# Altium integrated library Flight_Computer_1.IntLib: 48 symbols (part 2 of 3)
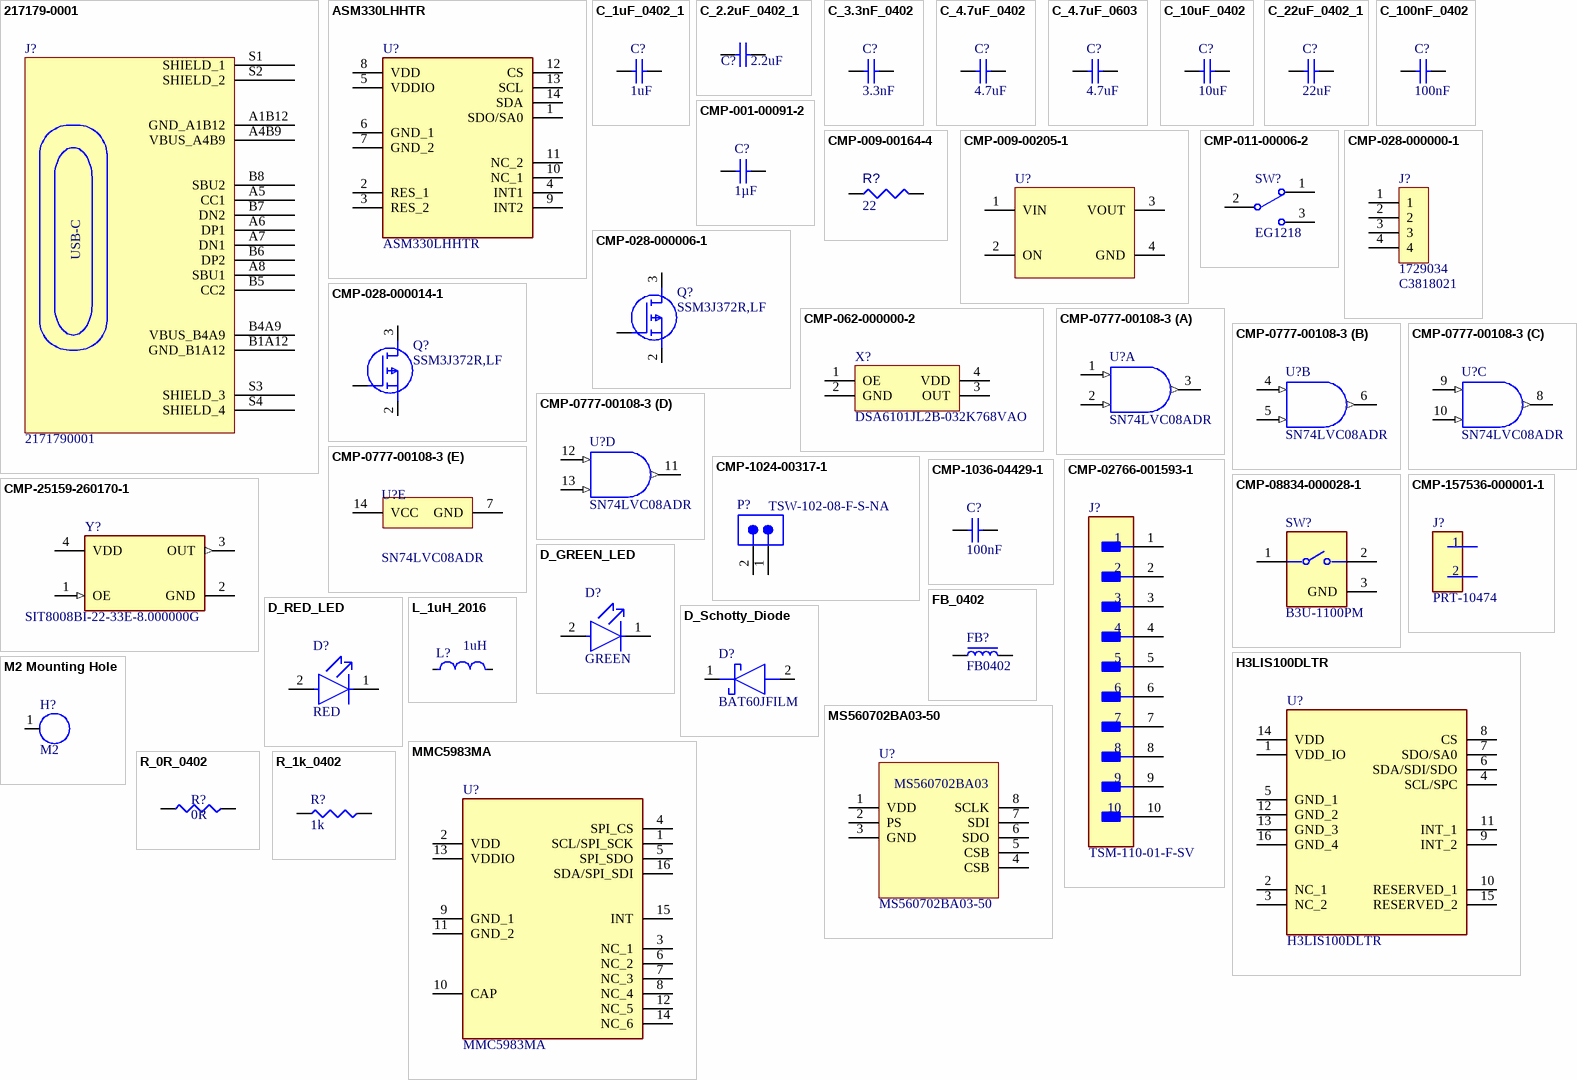
[diagram p2: symbols 217179-0001 to R_1k_0402]

## FB_0402
designator FB?, comment FB0402
Ferrite Beads Multi-Layer 600Ohm 25% 100MHz 300mA 520mOhm DCR 0402 Paper T/R; Manufacturer: Murata Electronics; Manufacturer Part Number: BLM15AG601SN1D; DC Resistance (DCR): 520mΩ; Impedance: 600Ω; Material: Ferrite, Steel; Number of Circuits: 1; Shielding: Unshielded; Distributor Link: *; LCSC Part #: C76884; Supplier: DigiKey; Supplier Part Number: 490-1006-1-ND; RoHS: Compliant; Category: Ferrite Beads and Chips; Stock: 347218; Pricing: 1=0.1, 10=0.043, 25=0.0376, 50=0.034, 100=0.0305, 250=0.02632, 500=0.02346, 1000=0.02083, 5000=0.01546, 10000=0.01341, 20000=0.01188 (USD); Case/Package: 0402; Case Code (Imperial): 0402; Case Code (Metric): 1005; Core Material: Ferrite; Current Rating: 300mA; DC Current: 300mA; Depth: 550µm; Frequency: 100MHz; Height: 500µm; Lead Free: Lead Free; Length: 1mm; Lifecycle Status: Production; Max Current Rating: 300mA; Max DC Current: 300mA; Clock Frequency: 100MHz; Max Operating Temperature: 125°C; Military Standard: Not; Min Operating Temperature: -55°C; Number of Lines: 1; Pins: 2; Number of Terminals: 2; Packaging: Tape and Reel; Radiation Hardening: No; REACH SVHC: Yes; RMS Current (Irms): 300mA; Schedule B: 8504500000, 8504500000|8504500000, 8504500000|8504500000|8504500000, 8504500000|8504500000|8504500000|8504500000; ESR: 520mΩ; Termination: SMD/SMT; Test Frequency: 100MHz; Tolerance: 25%; Width: 500µm; ComponentLink1URL: https://datasheet.octopart.com:443/BLM15AG601SN1D-Murata-datasheet-180806368.pdf?src-supplier=Newark; ComponentLink1Description: https://datasheet.octopart.com:443/BLM15AG601SN1D-Murata-datasheet-180806368.pdf?src-supplier=Newark; ComponentLink2URL: https://datasheet.octopart.com:443/BLM15AG601SN1D-Murata-datasheet-12522583.pdf?src-supplier=Upverter; ComponentLink2Description: https://datasheet.octopart.com:443/BLM15AG601SN1D-Murata-datasheet-12522583.pdf?src-supplier=Upverter; ComponentLink3URL: https://datasheet.octopart.com:443/BLM15AG601SN1D-Murata-datasheet-10083551.pdf?src-supplier=Upverter; ComponentLink3Description: https://datasheet.octopart.com:443/BLM15AG601SN1D-Murata-datasheet-10083551.pdf?src-supplier=Upverter; ComponentLink4URL: https://datasheet.octopart.com:443/BLM15AG601SN1D-Murata-datasheet-8508678.pdf?src-supplier=Upverter; ComponentLink4Description: https://datasheet.octopart.com:443/BLM15AG601SN1D-Murata-datasheet-8508678.pdf?src-supplier=Upverter; ComponentLink5URL: https://datasheet.octopart.com:443/BLM15AG601SN1D-Murata-datasheet-70271.pdf?src-supplier=element14+APAC; ComponentLink5Description: https://datasheet.octopart.com:443/BLM15AG601SN1D-Murata-datasheet-70271.pdf?src-supplier=element14+APAC; ComponentLink6URL: https://datasheet.octopart.com:443/BLM15AG601SN1D-Murata-datasheet-11772092.pdf?src-supplier=Future+Electronics; ComponentLink6Description: https://datasheet.octopart.com:443/BLM15AG601SN1D-Murata-datasheet-11772092.pdf?src-supplier=Future+Electronics; ComponentLink7URL: https://datasheet.octopart.com:443/BLM15AG601SN1D-Murata-datasheet-13536432.pdf?src-supplier=Future+Electronics; ComponentLink7Description: https://datasheet.octopart.com:443/BLM15AG601SN1D-Murata-datasheet-13536432.pdf?src-supplier=Future+Electronics; ComponentLink8URL: https://datasheet.octopart.com:443/BLM15AG601SN1D-Murata-datasheet-79879196.pdf?src-supplier=Future+Electronics; ComponentLink8Description: https://datasheet.octopart.com:443/BLM15AG601SN1D-Murata-datasheet-79879196.pdf?src-supplier=Future+Electronics; ComponentLink9URL: https://datasheet.octopart.com:443/BLM15AG601SN1D-Murata-datasheet-13563506.pdf?src-supplier=Future+Electronics; ComponentLink9Description: https://datasheet.octopart.com:443/BLM15AG601SN1D-Murata-datasheet-13563506.pdf?src-supplier=Future+Electronics; ComponentLink10URL: https://datasheet.octopart.com:443/BLM15AG601SN1D-Murata-datasheet-12545319.pdf?src-supplier=Future+Electronics; ComponentLink10Description: https://datasheet.octopart.com:443/BLM15AG601SN1D-Murata-datasheet-12545319.pdf?src-supplier=Future+Electronics; ComponentLink11URL: https://datasheet.octopart.com:443/BLM15AG601SN1D-Murata-datasheet-141257741.pdf?src-supplier=Ciiva; ComponentLink11Description: https://datasheet.octopart.com:443/BLM15AG601SN1D-Murata-datasheet-141257741.pdf?src-supplier=Ciiva; ComponentLink12URL: https://datasheet.octopart.com:443/BLM15AG601SN1D-Murata-datasheet-138706486.pdf?src-supplier=Ciiva; ComponentLink12Description: https://datasheet.octopart.com:443/BLM15AG601SN1D-Murata-datasheet-138706486.pdf?src-supplier=Ciiva; ComponentLink13URL: https://datasheet.octopart.com:443/BLM15AG601SN1D-Murata-datasheet-155367977.pdf?src-supplier=TME; ComponentLink13Description: https://datasheet.octopart.com:443/BLM15AG601SN1D-Murata-datasheet-155367977.pdf?src-supplier=TME; ComponentLink14URL: https://datasheet.octopart.com:443/BLM15AG601SN1D-Murata-datasheet-65816644.pdf?src-supplier=TME; ComponentLink14Description: https://datasheet.octopart.com:443/BLM15AG601SN1D-Murata-datasheet-65816644.pdf?src-supplier=TME; ComponentLink15URL: https://datasheet.octopart.com:443/BLM15AG601SN1D-Murata-datasheet-102761981.pdf?src-supplier=Megastar; ComponentLink15Description: https://datasheet.octopart.com:443/BLM15AG601SN1D-Murata-datasheet-102761981.pdf?src-supplier=Megastar; ComponentLink16URL: https://datasheet.octopart.com/BLM15AG601SN1D-Murata-datasheet-37129980.pdf; ComponentLink16Description: https://datasheet.octopart.com/BLM15AG601SN1D-Murata-datasheet-37129980.pdf; ComponentLink17URL: https://datasheet.octopart.com:443/BLM15AG601SN1D-Murata-datasheet-14066398.pdf?src-supplier=iiiC; ComponentLink17Description: https://datasheet.octopart.com:443/BLM15AG601SN1D-Murata-datasheet-14066398.pdf?src-supplier=iiiC; ComponentLink18URL: http://sigma.octopart.com:80/reach_statement/Murata-company-16.pdf?src-supplier=Compliance+Statements; ComponentLink18Description: http://sigma.octopart.com:80/reach_statement/Murata-company-16.pdf?src-supplier=Compliance+Statements
footprint 0402_R
pins: 1, 2

## H3LIS100DLTR
designator U?
ACCELEROMETER 100G I2C/SPI 16LGA; Manufacturer_Name: STMicroelectronics; Axis: X, Y, Z; Bandwidth: 200Hz; Max Supply Voltage: 3.6V; Min Supply Voltage: 2.16V; Number of Circuits: 1; Operating Supply Voltage: 2.5V; Output Type: Digital; Datasheet Link: https://www.st.com/resource/en/datasheet/h3lis100dl.pdf; Height: 1mm; Manufacturer_Part_Number: H3LIS100DLTR; Mouser Part Number: 511-H3LIS100DLTR; Mouser Price/Stock: https://www.mouser.co.uk/ProductDetail/STMicroelectronics/H3LIS100DLTR?qs=v3MacVxtdDLHj8sdza6BGw%3D%3D; Arrow Part Number: H3LIS100DLTR; Arrow Price/Stock: https://www.arrow.com/en/products/h3lis100dltr/stmicroelectronics?region=nac; Supplier: DigiKey; Supplier Part Number: 497-15697-1-ND; Manufacturer: STMicroelectronics; Manufacturer Part Number: H3LIS100DLTR; RoHS: Compliant; Category: Accelerometers; Stock: 8694; Pricing: 1=6.69, 5=6.03, 10=5.783, 25=5.4888, 50=5.2876, 100=5.1032, 500=4.88678 (USD); Case/Package: LGA; China RoHS: Non-Compliant; Height - Seated (Max): 1mm; Lead Free: Lead Free; Length: 3mm; Lifecycle Status: Production; Max Operating Temperature: 85°C; Min Operating Temperature: -40°C; Mounting Technology: Surface Mount; Pins: 16; Number of Terminals: 16; REACH SVHC: No; Schedule B: 8542390000, 8542390000|8542390000|8542390000|8542390000|8542390000|8542390000|8542390000|8542390000|8542390000|8542390000|8542390000|8542390000|8542390000|8542390000|8542390000|8542390000|8542390000|8542390000|8542390000|8542390000|8542390000|8542390000|8542390000|85; Terminal Pitch: 500µm; Width: 3mm; ComponentLink1URL: https://datasheet.octopart.com:443/H3LIS100DLTR-STMicroelectronics-datasheet-181243375.pdf?src-supplier=IHS; ComponentLink1Description: https://datasheet.octopart.com:443/H3LIS100DLTR-STMicroelectronics-datasheet-181243375.pdf?src-supplier=IHS; ComponentLink2URL: https://datasheet.octopart.com:443/H3LIS100DLTR-STMicroelectronics-datasheet-41189296.pdf?src-supplier=element14+APAC; ComponentLink2Description: https://datasheet.octopart.com:443/H3LIS100DLTR-STMicroelectronics-datasheet-41189296.pdf?src-supplier=element14+APAC; LCSC Part #: C2655068
footprint H3LIS100DLTR
pins: 1 VDD_IO, 2 NC_1, 3 NC_2, 4 SCL/SPC, 5 GND_1, 6 SDA/SDI/SDO, 7 SDO/SA0, 8 CS, 9 INT_2, 10 RESERVED_1, 11 INT_1, 12 GND_2, 13 GND_3, 14 VDD, 15 RESERVED_2, 16 GND_4

## L_1uH_2016
designator L?, comment 1uH
FIXED IND 1UH 1.7A 128 MOHM SMD; Manufacturer: Murata; Manufacturer Part Number: DFE201610E-2R2M=P2; Manufacturer Lifecycle Status: IN PRODUCTION; DC Resistance (DCR): 140mΩ; Value: 2.2µH; Inductance Tolerance: 20%; Number of Circuits: 1; Saturation Current: 2.4A; Shielding: Yes; Test Frequency: 1MHz; Core Material: Metal; Supplier: DigiKey; Supplier Part Number: 490-17728-1-ND; RoHS: Compliant; Category: Fixed Inductors; Stock: 158333; Pricing: 1=0.24, 10=0.2, 100=0.1645, 1000=0.13528 (USD); Case/Package: 0806; Composition: Wirewound; Current Rating: 1.7A; Height: 1mm; Lifecycle Status: Production; Max Current Rating: 1.7A; Max Operating Temperature: 125°C; Min Operating Temperature: -40°C; Number of Terminals: 2; Packaging: Cut Tape; REACH SVHC: Yes; RMS Current (Irms): 1.7A; Schedule B: 8504500000; ESR: 140mΩ; Tolerance: 20%; Width: 1.6mm; Ambient Temperature Range High: 85°C; ComponentLink1URL: https://datasheet.octopart.com:443/DFE18SAN1R0MG0L-Murata-datasheet-141261288.pdf?src-supplier=Ciiva; ComponentLink1Description: https://datasheet.octopart.com:443/DFE18SAN1R0MG0L-Murata-datasheet-141261288.pdf?src-supplier=Ciiva; ComponentLink2URL: https://datasheet.octopart.com:443/DFE18SAN1R0MG0L-Murata-datasheet-140650244.pdf?src-supplier=Ciiva; ComponentLink2Description: https://datasheet.octopart.com:443/DFE18SAN1R0MG0L-Murata-datasheet-140650244.pdf?src-supplier=Ciiva; ComponentLink3URL: https://datasheet.octopart.com:443/DFE18SAN1R0MG0L-Murata-datasheet-138707311.pdf?src-supplier=Ciiva; ComponentLink3Description: https://datasheet.octopart.com:443/DFE18SAN1R0MG0L-Murata-datasheet-138707311.pdf?src-supplier=Ciiva; ComponentLink4URL: https://datasheet.octopart.com:443/DFE18SAN1R0MG0L-Murata-datasheet-140568518.pdf?src-supplier=Arrow.cn; ComponentLink4Description: https://datasheet.octopart.com:443/DFE18SAN1R0MG0L-Murata-datasheet-140568518.pdf?src-supplier=Arrow.cn; ComponentLink5URL: https://datasheet.octopart.com:443/DFE18SAN1R0MG0L-Murata-datasheet-169352396.pdf?src-supplier=Arrow.cn; ComponentLink5Description: https://datasheet.octopart.com:443/DFE18SAN1R0MG0L-Murata-datasheet-169352396.pdf?src-supplier=Arrow.cn; ComponentLink6URL: https://datasheet.octopart.com:443/DFE18SAN1R0MG0L-Murata-datasheet-145448863.pdf?src-supplier=Geoflip; ComponentLink6Description: https://datasheet.octopart.com:443/DFE18SAN1R0MG0L-Murata-datasheet-145448863.pdf?src-supplier=Geoflip; ComponentLink7URL: http://sigma.octopart.com:80/reach_statement/Murata-company-16.pdf?src-supplier=Compliance+Statements; ComponentLink7Description: http://sigma.octopart.com:80/reach_statement/Murata-company-16.pdf?src-supplier=Compliance+Statements; LCSC Part #: C560043
footprint AOTAB201610S3R3101T
pins: 1, 2

## M2 Mounting Hole
designator H?, comment M2
2mm M2 Mounting Hole
footprint Mounting Hole
pins: 1

## MMC5983MA
designator U?
8 Gauss, High Performance 3-axis Magnetic Sensor Automotive AEC-Q100; Manufacturer_Name: MEMSIC; Max Supply Voltage: 3.6V; Min Supply Voltage: 2.8V; Sensing Method: Magnetoresistive; Datasheet Link: https://www.mouser.com/datasheet/2/821/Memsic_09102019_MMC5983MA_Datasheet_Rev_A-1635338.pdf; Height: 1mm; Manufacturer_Part_Number: MMC5983MA; Mouser Part Number: 438-MMC5983MA; Mouser Price/Stock: https://www.mouser.co.uk/ProductDetail/MEMSIC/MMC5983MA?qs=B6kkDfuK7%2FD5qasHMdEt2g%3D%3D; Arrow Part Number: MMC5983MA; Arrow Price/Stock: https://www.arrow.com/en/products/mmc5983ma/memsic?utm_currency=USD&region=nac; Supplier: DigiKey; Supplier Part Number: 1267-MMC5983MACT-ND; Manufacturer: Memsic; Manufacturer Part Number: MMC5983MA; RoHS: Compliant; Category: Linear ICs; Stock: 65243; Pricing: 1=2.79, 5=2.49, 10=2.378, 25=2.244, 50=2.1522, 100=2.0681, 500=1.899, 1000=1.83604 (USD); Length: 3mm; Max Operating Temperature: 105°C; Min Operating Temperature: -40°C; Mounting Technology: Surface Mount; Number of Terminals: 16; REACH SVHC: Yes; ComponentLink1URL: https://datasheet.octopart.com:443/MMC5983MA-Memsic-datasheet-180628270.pdf?src-supplier=IHS; ComponentLink1Description: https://datasheet.octopart.com:443/MMC5983MA-Memsic-datasheet-180628270.pdf?src-supplier=IHS; ComponentLink2URL: https://datasheet.octopart.com:443/MMC5983MA-Memsic-datasheet-160655074.pdf?src-supplier=Upverter; ComponentLink2Description: https://datasheet.octopart.com:443/MMC5983MA-Memsic-datasheet-160655074.pdf?src-supplier=Upverter; LCSC Part #: C404329
footprint MMC5983MA_MEM
pins: 1 SCL/SPI_SCK, 2 VDD, 3 NC_1, 4 SPI_CS, 5 SPI_SDO, 6 NC_2, 7 NC_3, 8 NC_4, 9 GND_1, 10 CAP, 11 GND_2, 12 NC_5, 13 VDDIO, 14 NC_6, 15 INT, 16 SDA/SPI_SDI

## MS560702BA03-50
designator U?
SENSOR 17.4PSIA 24BIT 8SMD; Manufacturer: TE Connectivity; Package Shape/Style: Rectangular; Output Type: DIGITAL VOLTAGE; Accuracy-Max (%): 4%; Number of Bits: 24; Operating Current-Max: 1.4mA; Output Interface Type: I2C; Output Range: 0-3V; Pressure Range-Max: 15.95PSI; Pressure Range-Min: 4.351PSI; Pressure Type: Barometric; Response Time: 8220us; Sensor Type: PRESSURE SENSOR,PEIZORESISTIVE; Max Supply Voltage: 3.6V; Min Supply Voltage: 1.8V; Body Breadth: 3mm; Body Height: 0.95mm; Body Length or Diameter: 5mm; Supplier: Digikey; Supplier Part Number: 223-1198-1-ND; Manufacturer Part Number: MS560702BA03-50; RoHS: Yes; Category: Pressure Sensors; Stock: 43971; Pricing: 1=9.05, 5=8.384, 10=7.721, 25=7.436, 50=6.9272, 100=5.8731, 500=5.46908, 1000=5.89422, 3600=5.375 (USD); Mounting Technology: Surface Mount; Min Operating Temperature: -40°C; Max Operating Temperature: 85°C; Termination: Solder; Reach SVHC Compliant: No; RoHS Compliant: Yes; ComponentLink1URL: https://www.te.com:443/usa-en/product-MS560702BA03-50.datasheet.pdf?src-supplier=IHS+Markit; ComponentLink1Description: https://www.te.com:443/usa-en/product-MS560702BA03-50.datasheet.pdf?src-supplier=IHS+Markit; ComponentLink2URL: http://www.farnell.com/datasheets/1756127.pdf?src-supplier=Farnell; ComponentLink2Description: http://www.farnell.com/datasheets/1756127.pdf?src-supplier=Farnell; ComponentLink3URL: https://datasheet.octopart.com/MS560702BA03-50-TE-Connectivity-datasheet-21074431.pdf?src-supplier=Element14; ComponentLink3Description: https://datasheet.octopart.com/MS560702BA03-50-TE-Connectivity-datasheet-21074431.pdf?src-supplier=Element14; ComponentLink4URL: https://www.te.com/commerce/DocumentDelivery/DDEController?Action=srchrtrv&DocNm=MS5607-02BA03&DocType=Data+Sheet&DocLang=English&src-supplier=Digikey; ComponentLink4Description: https://www.te.com/commerce/DocumentDelivery/DDEController?Action=srchrtrv&DocNm=MS5607-02BA03&DocType=Data+Sheet&DocLang=English&src-supplier=Digikey; ComponentLink5URL: https://datasheet.octopart.com/MS560702BA03-50-TE-Connectivity-datasheet-176112741.pdf?src-supplier=Future+Electronics; ComponentLink5Description: https://datasheet.octopart.com/MS560702BA03-50-TE-Connectivity-datasheet-176112741.pdf?src-supplier=Future+Electronics; ComponentLink6URL: https://datasheet.octopart.com/MS560702BA03-50-TE-Connectivity-datasheet-65793091.pdf?src-supplier=Sager+Electronics; ComponentLink6Description: https://datasheet.octopart.com/MS560702BA03-50-TE-Connectivity-datasheet-65793091.pdf?src-supplier=Sager+Electronics; LCSC Part #: C97627
footprint MS5607-02BA03
pins: 1 VDD , 2 PS, 3 GND, 4 CSB, 5 CSB, 6 SDO, 7 SDI, 8 SCLK
text: MS560702BA03

## R_0R_0402
designator R?, comment 0R
GENERAL PURPOSE CHIP RESISTOR Metal Glaze/thick Film, 0.0625W, 0ohm, Surface Mount, 0402; Manufacturer: Yageo Group; Manufacturer Part Number: RC0402JR-070RL; Max Power Dissipation: 63mW; Power Dissipation: 62.5mW; Value: 0Ω; Temperature Coefficient: 200ppm/°C; Tolerance: 5%; Voltage Rating: 50V; Supplier: DigiKey; Supplier Part Number: 311-0.0JRDKR-ND; RoHS: Compliant; Category: Chip SMD Resistors; Stock: 23041339; Pricing: 1=0.1, 10=0.010, 25=0.0064, 50=0.0054, 100=0.0047, 250=0.00392, 500=0.00346, 1000=0.00304, 5000=0.0023 (USD); Case/Package: 0402; Case Code (Imperial): 0402; China RoHS: Non-Compliant; Composition: Thick Film; Contact Plating: Tin; Depth: 500µm; Features: Moisture Resistant; Height: 350µm; Lead Free: Lead Free; Length: 1mm; Lifecycle Status: Production; Max Operating Temperature: 155°C; Military Standard: Not; Min Operating Temperature: -55°C; Mounting Technology: Surface Mount; Pins: 2; Number of Terminals: 2; Number of Terminations: 2; Packaging: Tape & Reel; Power Rating: 63mW; Radiation Hardening: No; REACH SVHC: Yes; Schedule B: 8533290000, 8533290000|8533290000, 8533290000|8533290000|8533290000, 8533290000|8533290000|8533290000|8533290000; Termination: SMD/SMT; Voltage Rating (DC): 50V; Width: 500µm; ComponentLink1URL: https://datasheet.octopart.com:443/RC0402JR-070RL-Yageo-datasheet-182189538.pdf?src-supplier=IHS; ComponentLink1Description: https://datasheet.octopart.com:443/RC0402JR-070RL-Yageo-datasheet-182189538.pdf?src-supplier=IHS; ComponentLink2URL: https://datasheet.octopart.com:443/RC0402JR-070RL-Yageo-datasheet-10408619.pdf?src-supplier=Newark; ComponentLink2Description: https://datasheet.octopart.com:443/RC0402JR-070RL-Yageo-datasheet-10408619.pdf?src-supplier=Newark; ComponentLink3URL: https://datasheet.octopart.com:443/RC0402JR-070RL-Yageo-datasheet-12531192.pdf?src-supplier=Seeed+Studio; ComponentLink3Description: https://datasheet.octopart.com:443/RC0402JR-070RL-Yageo-datasheet-12531192.pdf?src-supplier=Seeed+Studio; ComponentLink4URL: https://datasheet.octopart.com:443/RC0402JR-070RL-Yageo-datasheet-8324527.pdf?src-supplier=TME; ComponentLink4Description: https://datasheet.octopart.com:443/RC0402JR-070RL-Yageo-datasheet-8324527.pdf?src-supplier=TME; ComponentLink5URL: https://datasheet.octopart.com:443/RC0402JR-070RL-Yageo-datasheet-62067350.pdf?src-supplier=Farnell; ComponentLink5Description: https://datasheet.octopart.com:443/RC0402JR-070RL-Yageo-datasheet-62067350.pdf?src-supplier=Farnell; ComponentLink6URL: https://datasheet.octopart.com:443/RC0402JR-070RL-Yageo-datasheet-8329306.pdf?src-supplier=element14; ComponentLink6Description: https://datasheet.octopart.com:443/RC0402JR-070RL-Yageo-datasheet-8329306.pdf?src-supplier=element14; ComponentLink7URL: https://datasheet.octopart.com:443/RC0402JR-070RL-Yageo-datasheet-505231.pdf?src-supplier=element14; ComponentLink7Description: https://datasheet.octopart.com:443/RC0402JR-070RL-Yageo-datasheet-505231.pdf?src-supplier=element14; ComponentLink8URL: https://datasheet.octopart.com:443/RC0402JR-070RL-Yageo-datasheet-175423674.pdf?src-supplier=SOS+electronic; ComponentLink8Description: https://datasheet.octopart.com:443/RC0402JR-070RL-Yageo-datasheet-175423674.pdf?src-supplier=SOS+electronic; ComponentLink9URL: https://datasheet.octopart.com:443/RC0402JR-070RL-Yageo-datasheet-164759695.pdf?src-supplier=Future+Electronics; ComponentLink9Description: https://datasheet.octopart.com:443/RC0402JR-070RL-Yageo-datasheet-164759695.pdf?src-supplier=Future+Electronics; ComponentLink10URL: https://datasheet.octopart.com:443/RC0402JR-070RL-Yageo-datasheet-137700087.pdf?src-supplier=Future+Electronics; ComponentLink10Description: https://datasheet.octopart.com:443/RC0402JR-070RL-Yageo-datasheet-137700087.pdf?src-supplier=Future+Electronics; ComponentLink11URL: https://datasheet.octopart.com/RC0402JR-070RL-Yageo-datasheet-73766026.pdf; ComponentLink11Description: https://datasheet.octopart.com/RC0402JR-070RL-Yageo-datasheet-73766026.pdf; ComponentLink12URL: http://sigma.octopart.com:80/rohs_statement/Yageo-company-2.pdf?src-supplier=Compliance+Statements; ComponentLink12Description: http://sigma.octopart.com:80/rohs_statement/Yageo-company-2.pdf?src-supplier=Compliance+Statements; ComponentLink13URL: http://sigma.octopart.com:80/conflict_mineral_statement/Yageo-company-3.pdf?src-supplier=Compliance+Statements; ComponentLink13Description: http://sigma.octopart.com:80/conflict_mineral_statement/Yageo-company-3.pdf?src-supplier=Compliance+Statements; LCSC Part #: C60485
footprint 0402_R
pins: 1, 2

## R_1k_0402
designator R?, comment 1k
RES 1K OHM 1% 1/16W 0402; Manufacturer: Yageo Group; Manufacturer Part Number: RC0402FR-071KL; Power Dissipation: 62.5mW; Power Rating: 63mW; Value: 1kΩ; Temperature Coefficient: 100ppm/°C; Voltage Rating: 50V; LCSC Part #: C106235; Supplier: DigiKey; Supplier Part Number: 311-1.00KLRTR-ND; RoHS: Compliant; Category: Chip SMD Resistors; Stock: 4926888; Pricing: 10000=0.00204, 20000=0.002, 30000=0.00196, 50000=0.00182, 70000=0.00181 (USD); Case/Package: 0402; Case Code (Imperial): 0402; Case Code (Metric): 0402; China RoHS: Non-Compliant; Composition: Thick Film; Depth: 500µm; Height: 350µm; Lead Free: Lead Free; Length: 1mm; Lifecycle Status: Production; Max Operating Temperature: 155°C; Military Standard: Not; Min Operating Temperature: -55°C; Mounting Technology: Surface Mount; Pins: 2; Number of Terminals: 2; Packaging: Tape & Reel; REACH SVHC: Yes; Schedule B: 8533210045, 8533210045|8533210045|8533210045|8533210045|8533210045|8533210045|8533210045|8533210045|8533210045|8533210045|8533210045|8533210045|8533210045|8533210045|8533210045|8533210045|8533210045|8533210045|8533210045|8533210045|8533210045|8533210045|8533210045|85; Termination: SMD/SMT; Tolerance: 1%; Voltage Rating (AC): 50V; Voltage Rating (DC): 50V; Width: 500µm; Working Voltage: 50V; ComponentLink1URL: https://datasheet.octopart.com:443/RC0402FR-071KL-Yageo-datasheet-175887523.pdf?src-supplier=IHS; ComponentLink1Description: https://datasheet.octopart.com:443/RC0402FR-071KL-Yageo-datasheet-175887523.pdf?src-supplier=IHS; ComponentLink2URL: https://datasheet.octopart.com:443/RC0402FR-071KL-Yageo-datasheet-164759695.pdf?src-supplier=Upverter; ComponentLink2Description: https://datasheet.octopart.com:443/RC0402FR-071KL-Yageo-datasheet-164759695.pdf?src-supplier=Upverter; ComponentLink3URL: https://datasheet.octopart.com:443/RC0402FR-071KL-Yageo-datasheet-103092701.pdf?src-supplier=Upverter; ComponentLink3Description: https://datasheet.octopart.com:443/RC0402FR-071KL-Yageo-datasheet-103092701.pdf?src-supplier=Upverter; ComponentLink4URL: https://sigma.octopart.com:443/138820526/technical_drawing/Yageo-RC0402FR-071KL.pdf?src-supplier=Upverter; ComponentLink4Description: https://sigma.octopart.com:443/138820526/technical_drawing/Yageo-RC0402FR-071KL.pdf?src-supplier=Upverter; ComponentLink5URL: https://datasheet.octopart.com:443/RC0402FR-071KL-Yageo-datasheet-98239111.pdf?src-supplier=Upverter; ComponentLink5Description: https://datasheet.octopart.com:443/RC0402FR-071KL-Yageo-datasheet-98239111.pdf?src-supplier=Upverter; ComponentLink6URL: https://datasheet.octopart.com:443/RC0402FR-071KL-Yageo-datasheet-10408619.pdf?src-supplier=Newark; ComponentLink6Description: https://datasheet.octopart.com:443/RC0402FR-071KL-Yageo-datasheet-10408619.pdf?src-supplier=Newark; ComponentLink7URL: https://datasheet.octopart.com:443/RC0402FR-071KL-Yageo-datasheet-8324527.pdf?src-supplier=Newark; ComponentLink7Description: https://datasheet.octopart.com:443/RC0402FR-071KL-Yageo-datasheet-8324527.pdf?src-supplier=Newark; ComponentLink8URL: https://datasheet.octopart.com:443/RC0402FR-071KL-Yageo-datasheet-62067350.pdf?src-supplier=Farnell; ComponentLink8Description: https://datasheet.octopart.com:443/RC0402FR-071KL-Yageo-datasheet-62067350.pdf?src-supplier=Farnell; ComponentLink9URL: https://datasheet.octopart.com:443/RC0402FR-071KL-Yageo-datasheet-12531192.pdf?src-supplier=Future+Electronics; ComponentLink9Description: https://datasheet.octopart.com:443/RC0402FR-071KL-Yageo-datasheet-12531192.pdf?src-supplier=Future+Electronics; ComponentLink10URL: https://datasheet.octopart.com:443/RC0402FR-071KL-Yageo-datasheet-137700087.pdf?src-supplier=Future+Electronics; ComponentLink10Description: https://datasheet.octopart.com:443/RC0402FR-071KL-Yageo-datasheet-137700087.pdf?src-supplier=Future+Electronics; ComponentLink11URL: https://datasheet.octopart.com:443/RC0402FR-071KL-Yageo-datasheet-8324255.pdf?src-supplier=Future+Electronics; ComponentLink11Description: https://datasheet.octopart.com:443/RC0402FR-071KL-Yageo-datasheet-8324255.pdf?src-supplier=Future+Electronics; ComponentLink12URL: https://datasheet.octopart.com:443/RC0402FR-071KL-Yageo-datasheet-8329306.pdf?src-supplier=element14; ComponentLink12Description: https://datasheet.octopart.com:443/RC0402FR-071KL-Yageo-datasheet-8329306.pdf?src-supplier=element14; ComponentLink13URL: https://datasheet.octopart.com:443/RC0402FR-071KL-Yageo-datasheet-505231.pdf?src-supplier=element14; ComponentLink13Description: https://datasheet.octopart.com:443/RC0402FR-071KL-Yageo-datasheet-505231.pdf?src-supplier=element14; ComponentLink14URL: https://datasheet.octopart.com:443/RC0402FR-071KL-Yageo-datasheet-175423674.pdf?src-supplier=SOS+electronic; ComponentLink14Description: https://datasheet.octopart.com:443/RC0402FR-071KL-Yageo-datasheet-175423674.pdf?src-supplier=SOS+electronic; ComponentLink15URL: https://datasheet.octopart.com:443/RC0402FR-071KL-Yageo-datasheet-148775077.pdf?src-supplier=TME; ComponentLink15Description: https://datasheet.octopart.com:443/RC0402FR-071KL-Yageo-datasheet-148775077.pdf?src-supplier=TME; ComponentLink16URL: https://datasheet.octopart.com:443/RC0402FR-071KL-Yageo-datasheet-79472498.pdf?src-supplier=Megastar; ComponentLink16Description: https://datasheet.octopart.com:443/RC0402FR-071KL-Yageo-datasheet-79472498.pdf?src-supplier=Megastar; ComponentLink17URL: https://datasheet.octopart.com/RC0402FR-071KL-Yageo-datasheet-73766026.pdf; ComponentLink17Description: https://datasheet.octopart.com/RC0402FR-071KL-Yageo-datasheet-73766026.pdf; ComponentLink18URL: http://sigma.octopart.com:80/rohs_statement/Yageo-company-2.pdf?src-supplier=Compliance+Statements; ComponentLink18Description: http://sigma.octopart.com:80/rohs_statement/Yageo-company-2.pdf?src-supplier=Compliance+Statements; ComponentLink19URL: http://sigma.octopart.com:80/conflict_mineral_statement/Yageo-company-3.pdf?src-supplier=Compliance+Statements; ComponentLink19Description: http://sigma.octopart.com:80/conflict_mineral_statement/Yageo-company-3.pdf?src-supplier=Compliance+Statements
footprint 0402_R
pins: 1, 2

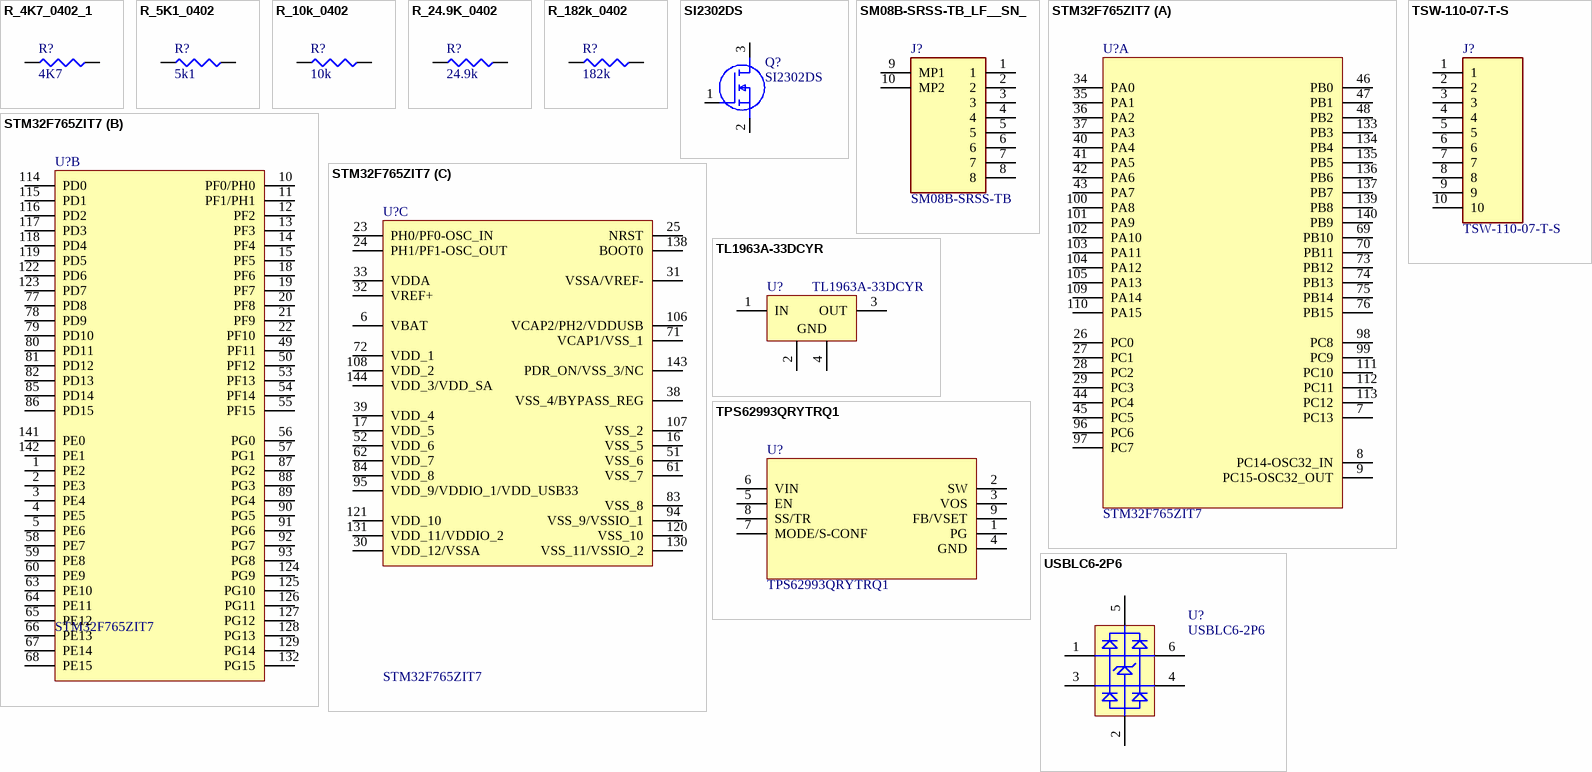
[diagram p1: symbols R_4K7_0402_1 to USBLC6-2P6]

## R_4K7_0402_1
designator R?, comment 4K7
RES 4.7K OHM 1% 1/16W 0402; Manufacturer: TE Connectivity; Manufacturer Part Number: CRGCQ0402F4K7; Manufacturer Lifecycle Status: ACTIVE; Working Voltage: 50V; Power Dissipation: 63mW; Power Rating: 62.5mW; Value: 4.7kΩ; Temperature Coefficient: 100ppm/°C; Supplier: DigiKey; Supplier Part Number: A129635CT-ND; RoHS: Compliant; Category: Chip SMD Resistors; Stock: 1741618; Pricing: 1=0.1, 10=0.025, 25=0.0184, 50=0.0148, 100=0.0121, 250=0.00936, 500=0.00784, 1000=0.00663, 5000=0.00473 (USD); Ambient Temperature Range High: 70°C; Case/Package: 0402; China RoHS: Non-Compliant; Composition: Thick Film; Height: 350µm; Lifecycle Status: Production; Max Operating Temperature: 155°C; Min Operating Temperature: -55°C; Mounting Technology: Surface Mount; Number of Terminals: 2; Operating Supply Voltage: 50V; Packaging: Cut Tape; REACH SVHC: Yes; Schedule B: 8533210025, 8533210025|8533210025|8533210025|8533210025|8533210025, 8533210045; Tolerance: 1%; Voltage Rating: 50V; Voltage Rating (DC): 50V; Width: 500µm; ComponentLink1URL: https://datasheet.octopart.com:443/CRGCQ0402F4K7-TE-Connectivity-datasheet-114679081.pdf?src-supplier=Master+Electronics; ComponentLink1Description: https://datasheet.octopart.com:443/CRGCQ0402F4K7-TE-Connectivity-datasheet-114679081.pdf?src-supplier=Master+Electronics; ComponentLink2URL: https://datasheet.octopart.com:443/3-2176337-3-TE-Connectivity---AMP-datasheet-189108688.pdf?src-supplier=Master+Electronics; ComponentLink2Description: https://datasheet.octopart.com:443/3-2176337-3-TE-Connectivity---AMP-datasheet-189108688.pdf?src-supplier=Master+Electronics; ComponentLink3URL: https://datasheet.octopart.com:443/CRGCQ0402F4K7-TE-Connectivity-datasheet-179146952.pdf?src-supplier=IHS; ComponentLink3Description: https://datasheet.octopart.com:443/CRGCQ0402F4K7-TE-Connectivity-datasheet-179146952.pdf?src-supplier=IHS; ComponentLink4URL: https://sigma.octopart.com:443/114679084/technical_drawing/TE-Connectivity-CRGCQ0402F4K7.pdf?src-supplier=Sager+Electronics; ComponentLink4Description: https://sigma.octopart.com:443/114679084/technical_drawing/TE-Connectivity-CRGCQ0402F4K7.pdf?src-supplier=Sager+Electronics; ComponentLink5URL: http://sigma.octopart.com:80/117256993/reach_statement/TE-Connectivity-CRGCQ0402F4K7.pdf?src-supplier=Compliance+Statements; ComponentLink5Description: http://sigma.octopart.com:80/117256993/reach_statement/TE-Connectivity-CRGCQ0402F4K7.pdf?src-supplier=Compliance+Statements; LCSC Part #: C2073585
footprint 0402_R
pins: 1, 2

## R_5K1_0402
designator R?, comment 5k1
Res Thick Film 0402 5.1K Ohm 1% 0.063W(1/16W) ±100ppm/C Pad SMD T/R; Manufacturer: Yageo Group; Manufacturer Part Number: RC0402FR-135K1L; Power Dissipation: 62.5mW; Value: 5.1kΩ; Temperature Coefficient: 100ppm/°C; Voltage Rating: 50V; Supplier: DigiKey; Supplier Part Number: 13-RC0402FR-135K1LCT-ND; RoHS: Compliant; Category: Chip SMD Resistors; Stock: 220857; Pricing: 1=0.1, 10=0.005, 25=0.0044, 50=0.004, 100=0.0036, 250=0.00328 (USD); Case/Package: 0402; Case Code (Imperial): 0402; Case Code (Metric): 1005; China RoHS: Non-Compliant; Composition: Thick Film; Contact Plating: Tin; Height: 350µm; Length: 1mm; Lifecycle Status: Production; Max Operating Temperature: 155°C; Min Operating Temperature: -55°C; Mounting Technology: Surface Mount; Number of Terminals: 2; Packaging: Tape & Reel; Power Rating: 62.5mW; Radiation Hardening: No; REACH SVHC: Yes; Termination: SMD/SMT; Tolerance: 1%; Width: 500µm; Working Voltage: 50V; ComponentLink1URL: https://datasheet.octopart.com:443/RC0402FR-135K1L-Yageo-datasheet-175887523.pdf?src-supplier=IHS; ComponentLink1Description: https://datasheet.octopart.com:443/RC0402FR-135K1L-Yageo-datasheet-175887523.pdf?src-supplier=IHS; ComponentLink2URL: https://datasheet.octopart.com:443/RC0402FR-135K1L-Yageo-datasheet-164759695.pdf?src-supplier=Future+Electronics; ComponentLink2Description: https://datasheet.octopart.com:443/RC0402FR-135K1L-Yageo-datasheet-164759695.pdf?src-supplier=Future+Electronics; ComponentLink3URL: https://datasheet.octopart.com/RC0402FR-135K1L-Yageo-datasheet-73766026.pdf; ComponentLink3Description: https://datasheet.octopart.com/RC0402FR-135K1L-Yageo-datasheet-73766026.pdf; ComponentLink4URL: https://datasheet.octopart.com:443/RC0402FR-135K1L-Yageo-datasheet-10408619.pdf?src-supplier=_legacy+Avnet; ComponentLink4Description: https://datasheet.octopart.com:443/RC0402FR-135K1L-Yageo-datasheet-10408619.pdf?src-supplier=_legacy+Avnet; ComponentLink5URL: http://sigma.octopart.com:80/rohs_statement/Yageo-company-2.pdf?src-supplier=Compliance+Statements; ComponentLink5Description: http://sigma.octopart.com:80/rohs_statement/Yageo-company-2.pdf?src-supplier=Compliance+Statements; ComponentLink6URL: http://sigma.octopart.com:80/conflict_mineral_statement/Yageo-company-3.pdf?src-supplier=Compliance+Statements; ComponentLink6Description: http://sigma.octopart.com:80/conflict_mineral_statement/Yageo-company-3.pdf?src-supplier=Compliance+Statements; LCSC Part #: C4346772
footprint 0402_R
pins: 1, 2

## R_10k_0402
designator R?, comment 10k
RES SMD 10K OHM 0.1% 1/16W 0402; Manufacturer: Yageo Group; Manufacturer Part Number: RC0402FR-071KL; Power Dissipation: 62.5mW; Power Rating: 63mW; Value: 10kΩ; Temperature Coefficient: 100ppm/°C; Tolerance: 1%; Voltage Rating: 50V; LCSC Part #: C191915; Supplier: DigiKey; Supplier Part Number: 311-1.00KLRTR-ND; RoHS: Compliant; Category: Chip SMD Resistors; Stock: 4926888; Pricing: 10000=0.00204, 20000=0.002, 30000=0.00196, 50000=0.00182, 70000=0.00181 (USD); Case/Package: 0402; Case Code (Imperial): 0402; Case Code (Metric): 0402; China RoHS: Non-Compliant; Composition: Thick Film; Depth: 500µm; Height: 350µm; Lead Free: Lead Free; Length: 1mm; Lifecycle Status: Production; Max Operating Temperature: 155°C; Military Standard: Not; Min Operating Temperature: -55°C; Mounting Technology: Surface Mount; Pins: 2; Number of Terminals: 2; Packaging: Tape & Reel; REACH SVHC: Yes; Schedule B: 8533210045, 8533210045|8533210045|8533210045|8533210045|8533210045|8533210045|8533210045|8533210045|8533210045|8533210045|8533210045|8533210045|8533210045|8533210045|8533210045|8533210045|8533210045|8533210045|8533210045|8533210045|8533210045|8533210045|8533210045|85; Termination: SMD/SMT; Voltage Rating (AC): 50V; Voltage Rating (DC): 50V; Width: 500µm; Working Voltage: 50V; ComponentLink1URL: https://datasheet.octopart.com:443/RC0402FR-071KL-Yageo-datasheet-175887523.pdf?src-supplier=IHS; ComponentLink1Description: https://datasheet.octopart.com:443/RC0402FR-071KL-Yageo-datasheet-175887523.pdf?src-supplier=IHS; ComponentLink2URL: https://datasheet.octopart.com:443/RC0402FR-071KL-Yageo-datasheet-164759695.pdf?src-supplier=Upverter; ComponentLink2Description: https://datasheet.octopart.com:443/RC0402FR-071KL-Yageo-datasheet-164759695.pdf?src-supplier=Upverter; ComponentLink3URL: https://datasheet.octopart.com:443/RC0402FR-071KL-Yageo-datasheet-103092701.pdf?src-supplier=Upverter; ComponentLink3Description: https://datasheet.octopart.com:443/RC0402FR-071KL-Yageo-datasheet-103092701.pdf?src-supplier=Upverter; ComponentLink4URL: https://sigma.octopart.com:443/138820526/technical_drawing/Yageo-RC0402FR-071KL.pdf?src-supplier=Upverter; ComponentLink4Description: https://sigma.octopart.com:443/138820526/technical_drawing/Yageo-RC0402FR-071KL.pdf?src-supplier=Upverter; ComponentLink5URL: https://datasheet.octopart.com:443/RC0402FR-071KL-Yageo-datasheet-98239111.pdf?src-supplier=Upverter; ComponentLink5Description: https://datasheet.octopart.com:443/RC0402FR-071KL-Yageo-datasheet-98239111.pdf?src-supplier=Upverter; ComponentLink6URL: https://datasheet.octopart.com:443/RC0402FR-071KL-Yageo-datasheet-10408619.pdf?src-supplier=Newark; ComponentLink6Description: https://datasheet.octopart.com:443/RC0402FR-071KL-Yageo-datasheet-10408619.pdf?src-supplier=Newark; ComponentLink7URL: https://datasheet.octopart.com:443/RC0402FR-071KL-Yageo-datasheet-8324527.pdf?src-supplier=Newark; ComponentLink7Description: https://datasheet.octopart.com:443/RC0402FR-071KL-Yageo-datasheet-8324527.pdf?src-supplier=Newark; ComponentLink8URL: https://datasheet.octopart.com:443/RC0402FR-071KL-Yageo-datasheet-62067350.pdf?src-supplier=Farnell; ComponentLink8Description: https://datasheet.octopart.com:443/RC0402FR-071KL-Yageo-datasheet-62067350.pdf?src-supplier=Farnell; ComponentLink9URL: https://datasheet.octopart.com:443/RC0402FR-071KL-Yageo-datasheet-12531192.pdf?src-supplier=Future+Electronics; ComponentLink9Description: https://datasheet.octopart.com:443/RC0402FR-071KL-Yageo-datasheet-12531192.pdf?src-supplier=Future+Electronics; ComponentLink10URL: https://datasheet.octopart.com:443/RC0402FR-071KL-Yageo-datasheet-137700087.pdf?src-supplier=Future+Electronics; ComponentLink10Description: https://datasheet.octopart.com:443/RC0402FR-071KL-Yageo-datasheet-137700087.pdf?src-supplier=Future+Electronics; ComponentLink11URL: https://datasheet.octopart.com:443/RC0402FR-071KL-Yageo-datasheet-8324255.pdf?src-supplier=Future+Electronics; ComponentLink11Description: https://datasheet.octopart.com:443/RC0402FR-071KL-Yageo-datasheet-8324255.pdf?src-supplier=Future+Electronics; ComponentLink12URL: https://datasheet.octopart.com:443/RC0402FR-071KL-Yageo-datasheet-8329306.pdf?src-supplier=element14; ComponentLink12Description: https://datasheet.octopart.com:443/RC0402FR-071KL-Yageo-datasheet-8329306.pdf?src-supplier=element14; ComponentLink13URL: https://datasheet.octopart.com:443/RC0402FR-071KL-Yageo-datasheet-505231.pdf?src-supplier=element14; ComponentLink13Description: https://datasheet.octopart.com:443/RC0402FR-071KL-Yageo-datasheet-505231.pdf?src-supplier=element14; ComponentLink14URL: https://datasheet.octopart.com:443/RC0402FR-071KL-Yageo-datasheet-175423674.pdf?src-supplier=SOS+electronic; ComponentLink14Description: https://datasheet.octopart.com:443/RC0402FR-071KL-Yageo-datasheet-175423674.pdf?src-supplier=SOS+electronic; ComponentLink15URL: https://datasheet.octopart.com:443/RC0402FR-071KL-Yageo-datasheet-148775077.pdf?src-supplier=TME; ComponentLink15Description: https://datasheet.octopart.com:443/RC0402FR-071KL-Yageo-datasheet-148775077.pdf?src-supplier=TME; ComponentLink16URL: https://datasheet.octopart.com:443/RC0402FR-071KL-Yageo-datasheet-79472498.pdf?src-supplier=Megastar; ComponentLink16Description: https://datasheet.octopart.com:443/RC0402FR-071KL-Yageo-datasheet-79472498.pdf?src-supplier=Megastar; ComponentLink17URL: https://datasheet.octopart.com/RC0402FR-071KL-Yageo-datasheet-73766026.pdf; ComponentLink17Description: https://datasheet.octopart.com/RC0402FR-071KL-Yageo-datasheet-73766026.pdf; ComponentLink18URL: http://sigma.octopart.com:80/rohs_statement/Yageo-company-2.pdf?src-supplier=Compliance+Statements; ComponentLink18Description: http://sigma.octopart.com:80/rohs_statement/Yageo-company-2.pdf?src-supplier=Compliance+Statements; ComponentLink19URL: http://sigma.octopart.com:80/conflict_mineral_statement/Yageo-company-3.pdf?src-supplier=Compliance+Statements; ComponentLink19Description: http://sigma.octopart.com:80/conflict_mineral_statement/Yageo-company-3.pdf?src-supplier=Compliance+Statements; Contact Plating: Tin; Features: Automotive AEC-Q200; Max Power Dissipation: 63mW; Number of Terminations: 2; Radiation Hardening: No; ComponentLink20URL: https://sigma.octopart.com:443/138766958/technical_drawing/Panasonic-ERA-2AEB103X.pdf?src-supplier=Upverter; ComponentLink20Description: https://sigma.octopart.com:443/138766958/technical_drawing/Panasonic-ERA-2AEB103X.pdf?src-supplier=Upverter; ComponentLink21URL: https://datasheet.octopart.com:443/ERA-2AEB103X-Panasonic-datasheet-62287448.pdf?src-supplier=Future+Electronics; ComponentLink21Description: https://datasheet.octopart.com:443/ERA-2AEB103X-Panasonic-datasheet-62287448.pdf?src-supplier=Future+Electronics; ComponentLink22URL: https://datasheet.octopart.com:443/ERA-2AEB103X-Panasonic-datasheet-12510007.pdf?src-supplier=Future+Electronics; ComponentLink22Description: https://datasheet.octopart.com:443/ERA-2AEB103X-Panasonic-datasheet-12510007.pdf?src-supplier=Future+Electronics; ComponentLink23URL: https://datasheet.octopart.com:443/ERA-2AEB103X-Panasonic-datasheet-11763931.pdf?src-supplier=Future+Electronics; ComponentLink23Description: https://datasheet.octopart.com:443/ERA-2AEB103X-Panasonic-datasheet-11763931.pdf?src-supplier=Future+Electronics; ComponentLink24URL: https://datasheet.octopart.com:443/ERA-2AEB103X-Panasonic-datasheet-10840895.pdf?src-supplier=Future+Electronics; ComponentLink24Description: https://datasheet.octopart.com:443/ERA-2AEB103X-Panasonic-datasheet-10840895.pdf?src-supplier=Future+Electronics; ComponentLink25URL: https://datasheet.octopart.com:443/ERA-2AEB103X-Panasonic-datasheet-8367715.pdf?src-supplier=Future+Electronics; ComponentLink25Description: https://datasheet.octopart.com:443/ERA-2AEB103X-Panasonic-datasheet-8367715.pdf?src-supplier=Future+Electronics; ComponentLink26URL: https://datasheet.octopart.com:443/ERA-2AEB103X-Panasonic-datasheet-5392808.pdf?src-supplier=Future+Electronics; ComponentLink26Description: https://datasheet.octopart.com:443/ERA-2AEB103X-Panasonic-datasheet-5392808.pdf?src-supplier=Future+Electronics; ComponentLink27URL: https://datasheet.octopart.com:443/ERA-2AEB103X-Panasonic-datasheet-136531316.pdf?src-supplier=TME; ComponentLink27Description: https://datasheet.octopart.com:443/ERA-2AEB103X-Panasonic-datasheet-136531316.pdf?src-supplier=TME; ComponentLink28URL: https://datasheet.octopart.com:443/ERA2AEB103X-Panasonic-datasheet-188913046.pdf?src-supplier=TME; ComponentLink28Description: https://datasheet.octopart.com:443/ERA2AEB103X-Panasonic-datasheet-188913046.pdf?src-supplier=TME; ComponentLink29URL: https://datasheet.octopart.com:443/ERA-2AEB103X-Panasonic-datasheet-13266200.pdf?src-supplier=_legacy+Avnet; ComponentLink29Description: https://datasheet.octopart.com:443/ERA-2AEB103X-Panasonic-datasheet-13266200.pdf?src-supplier=_legacy+Avnet; ComponentLink30URL: https://datasheet.octopart.com:443/ERA2AEB103X-Panasonic-datasheet-5311861.pdf?src-supplier=Newark; ComponentLink30Description: https://datasheet.octopart.com:443/ERA2AEB103X-Panasonic-datasheet-5311861.pdf?src-supplier=Newark; ComponentLink31URL: https://datasheet.octopart.com:443/ERA-2AEB103X-Panasonic-datasheet-61114971.pdf?src-supplier=Newark; ComponentLink31Description: https://datasheet.octopart.com:443/ERA-2AEB103X-Panasonic-datasheet-61114971.pdf?src-supplier=Newark; ComponentLink32URL: https://datasheet.octopart.com:443/ERA-2AEB103X-Panasonic-datasheet-34200419.pdf?src-supplier=Newark; ComponentLink32Description: https://datasheet.octopart.com:443/ERA-2AEB103X-Panasonic-datasheet-34200419.pdf?src-supplier=Newark; ComponentLink33URL: https://datasheet.octopart.com:443/ERA-2AEB103X-Panasonic-datasheet-7542722.pdf?src-supplier=element14+APAC; ComponentLink33Description: https://datasheet.octopart.com:443/ERA-2AEB103X-Panasonic-datasheet-7542722.pdf?src-supplier=element14+APAC; ComponentLink34URL: https://datasheet.octopart.com:443/ERA-2AEB103X-Panasonic-datasheet-154766165.pdf?src-supplier=Master+Electronics; ComponentLink34Description: https://datasheet.octopart.com:443/ERA-2AEB103X-Panasonic-datasheet-154766165.pdf?src-supplier=Master+Electronics; ComponentLink35URL: https://datasheet.octopart.com:443/ERA-2AEB103X-Panasonic-datasheet-46744048.pdf?src-supplier=RS+(Formerly+Allied+Electronics); ComponentLink35Description: https://datasheet.octopart.com:443/ERA-2AEB103X-Panasonic-datasheet-46744048.pdf?src-supplier=RS+(Formerly+Allied+Electronics); ComponentLink36URL: https://sigma.octopart.com:443/150570796/technical_drawing/Panasonic-ERA2AEB103X.pdf?src-supplier=Panasonic+SCT; ComponentLink36Description: https://sigma.octopart.com:443/150570796/technical_drawing/Panasonic-ERA2AEB103X.pdf?src-supplier=Panasonic+SCT; ComponentLink37URL: https://datasheet.octopart.com/ERA-2AEB103X-Panasonic-datasheet-78375410.pdf; ComponentLink37Description: https://datasheet.octopart.com/ERA-2AEB103X-Panasonic-datasheet-78375410.pdf; ComponentLink38URL: https://datasheet.octopart.com:443/ERA2AEB103X-Panasonic---ECG-datasheet-15994758.pdf?src-supplier=Farnell; ComponentLink38Description: https://datasheet.octopart.com:443/ERA2AEB103X-Panasonic---ECG-datasheet-15994758.pdf?src-supplier=Farnell; ComponentLink39URL: https://datasheet.octopart.com:443/ERA2AEB103X-Panasonic-datasheet-10050158.pdf?src-supplier=Arrow+Electronics; ComponentLink39Description: https://datasheet.octopart.com:443/ERA2AEB103X-Panasonic-datasheet-10050158.pdf?src-supplier=Arrow+Electronics; ComponentLink40URL: https://datasheet.octopart.com:443/ERA-2AEB103X-Panasonic-datasheet-33006989.pdf?src-supplier=Electro+Sonic; ComponentLink40Description: https://datasheet.octopart.com:443/ERA-2AEB103X-Panasonic-datasheet-33006989.pdf?src-supplier=Electro+Sonic
footprint 0402_R
pins: 1, 2

## R_24.9K_0402
designator R?, comment 24.9k
RES SMD 24.9KOHM 0.1% 1/16W 0402; Manufacturer: Panasonic; Manufacturer Part Number: ERA-2AEB2492X; Manufacturer Lifecycle Status: ACTIVE; Part Series: Thin Film Chip Resistors, High Reliability Type; Max Power Dissipation: 63mW; Value: 24.9kΩ; Temperature Coefficient: 25ppm/°C; Voltage Rating: 25V; Voltage Rating (DC): 50V; LCSC Part #: C490822; Supplier: DigiKey; Supplier Part Number: P24.9KDCCT-ND; RoHS: Compliant; Category: Chip SMD Resistors; Stock: 69347; Pricing: 1=0.1, 10=0.082, 25=0.076, 50=0.0716, 100=0.0677, 250=0.0628, 500=0.05944, 1000=0.05637, 5000=0.05032 (USD); Case/Package: 0402; Case Code (Imperial): 0402; Case Code (Metric): 1005; China RoHS: Non-Compliant; Composition: Metal Film, Thin Film; Contact Plating: Tin; Depth: 500µm; Features: Automotive AEC-Q200; Height: 350µm; Lead Free: Lead Free; Length: 1mm; Lifecycle Status: Production; Max Operating Temperature: 155°C; Military Standard: Not; Min Operating Temperature: -55°C; Mounting Technology: Surface Mount; Number of Terminals: 2; Number of Terminations: 2; Packaging: Cut Tape; Power Dissipation: 63mW; Power Rating: 63mW; REACH SVHC: Yes; Schedule B: 8533210045, 8533210045|8533210045|8533210045|8533210045|8533210045; Termination: Wraparound; Tolerance: 0.1%; Width: 500µm; Working Voltage: 50V; ComponentLink1URL: https://datasheet.octopart.com:443/ERA-2AEB2492X-Panasonic-datasheet-62287448.pdf?src-supplier=Panasonic; ComponentLink1Description: https://datasheet.octopart.com:443/ERA-2AEB2492X-Panasonic-datasheet-62287448.pdf?src-supplier=Panasonic; ComponentLink2URL: https://datasheet.octopart.com:443/ERA-2AEB2492X-Panasonic-datasheet-136531316.pdf?src-supplier=TME; ComponentLink2Description: https://datasheet.octopart.com:443/ERA-2AEB2492X-Panasonic-datasheet-136531316.pdf?src-supplier=TME; ComponentLink3URL: https://datasheet.octopart.com:443/ERA2AEB2492X-Panasonic-datasheet-188913046.pdf?src-supplier=TME; ComponentLink3Description: https://datasheet.octopart.com:443/ERA2AEB2492X-Panasonic-datasheet-188913046.pdf?src-supplier=TME; ComponentLink4URL: https://datasheet.octopart.com:443/ERA-2AEB2492X-Panasonic-datasheet-33006989.pdf?src-supplier=Newark; ComponentLink4Description: https://datasheet.octopart.com:443/ERA-2AEB2492X-Panasonic-datasheet-33006989.pdf?src-supplier=Newark; ComponentLink5URL: https://datasheet.octopart.com:443/ERA-2AEB2492X-Panasonic-datasheet-154766165.pdf?src-supplier=JRH+Electronics; ComponentLink5Description: https://datasheet.octopart.com:443/ERA-2AEB2492X-Panasonic-datasheet-154766165.pdf?src-supplier=JRH+Electronics; ComponentLink6URL: https://sigma.octopart.com:443/150570796/technical_drawing/Panasonic-ERA2AEB2492X.pdf?src-supplier=Panasonic+SCT; ComponentLink6Description: https://sigma.octopart.com:443/150570796/technical_drawing/Panasonic-ERA2AEB2492X.pdf?src-supplier=Panasonic+SCT; ComponentLink7URL: https://datasheet.octopart.com/ERA-2AEB2492X-Panasonic-datasheet-78375410.pdf; ComponentLink7Description: https://datasheet.octopart.com/ERA-2AEB2492X-Panasonic-datasheet-78375410.pdf; ComponentLink8URL: https://datasheet.octopart.com:443/ERA-2AEB2492X-Panasonic-datasheet-13266200.pdf?src-supplier=Electro+Sonic; ComponentLink8Description: https://datasheet.octopart.com:443/ERA-2AEB2492X-Panasonic-datasheet-13266200.pdf?src-supplier=Electro+Sonic; ComponentLink9URL: https://datasheet.octopart.com:443/ERA-2AEB2492X-Panasonic-datasheet-46744048.pdf?src-supplier=Electro+Sonic; ComponentLink9Description: https://datasheet.octopart.com:443/ERA-2AEB2492X-Panasonic-datasheet-46744048.pdf?src-supplier=Electro+Sonic; ComponentLink10URL: https://datasheet.octopart.com:443/ERA-2AEB2492X-Panasonic-datasheet-61114971.pdf?src-supplier=Future+Electronics; ComponentLink10Description: https://datasheet.octopart.com:443/ERA-2AEB2492X-Panasonic-datasheet-61114971.pdf?src-supplier=Future+Electronics
footprint 0402_R
pins: 1, 2